# Altium schematic symbol library Capacitors.SchLib: 2 symbols
Pins are listed as number, name and electrical type; pins without a type are passive.

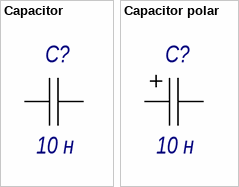
[diagram p0: symbols Capacitor to Capacitor polar]

## Capacitor
designator C?  value 10 н  (hidden comment: *)
Part Number: PN*
pins: 1, 2

## Capacitor polar
designator C?  value 10 н  (hidden comment: *)
Part Number: PN*
pins: 1, 2